# EAGLE library part TLV9022 (library TLV9022)
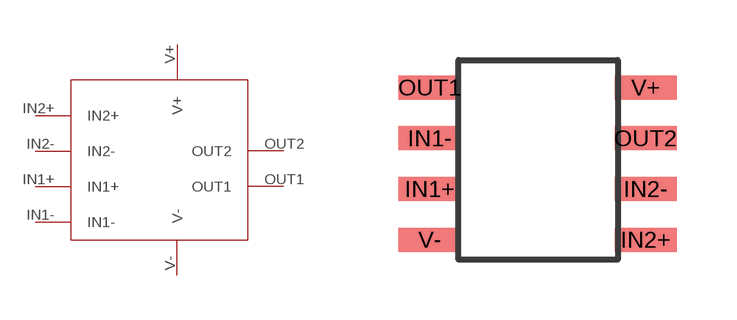
[diagram p0: symbol with the pads of TLV9022; footprint TLV9022]

Designator prefix TLV9022

## TLV9022  [TLV9022]
IN1+  IN1+
IN1-  IN1-
IN2+  IN2+
IN2-  IN2-
OUT1  OUT1
OUT2  OUT2
V+  V+
V-  V-

## Footprint TLV9022 (pad centres in mm)
smd 1.55 x 0.6: IN1+ -2.71,-0.73; IN1- -2.71,0.54; IN2+ 2.69,-2; IN2- 2.69,-0.73; OUT1 -2.71,1.81; OUT2 2.69,0.54; V+ 2.69,1.81; V- -2.71,-2